# Altium schematic symbol library SCH Library.SchLib: 39 symbols
Pins are listed as number, name and electrical type; pins without a type are passive.

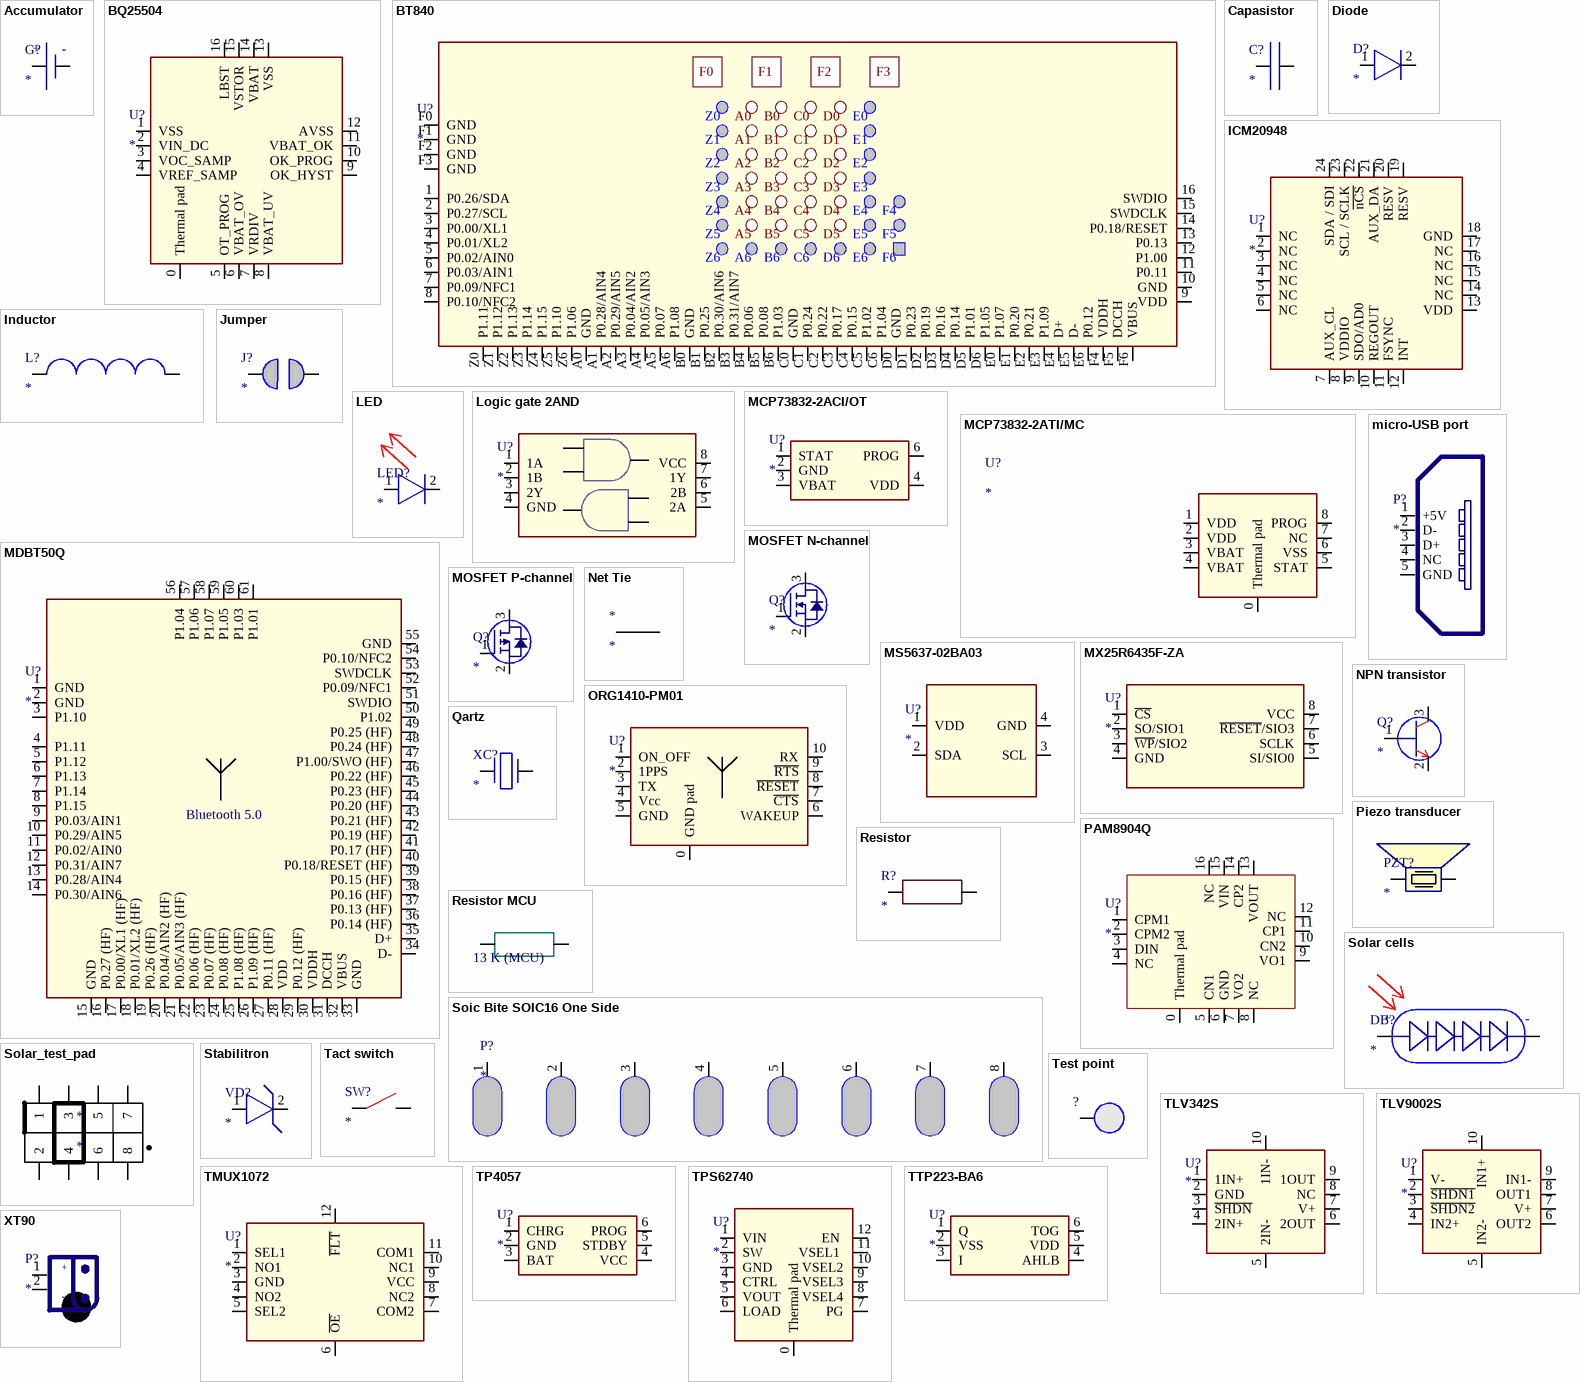
[diagram p0: symbols Accumulator to XT90]

## Accumulator
designator G?
footprint LPV551230 (LiPo accumulator)
pins: 1, 2
text: +; -

## BQ25504
designator U?
footprint BQ25504 (Solar harvester)
pins: 0 Thermal pad, 1 VSS, 2 VIN_DC, 3 VOC_SAMP, 4 VREF_SAMP, 5 OT_PROG, 6 VBAT_OV, 7 VRDIV, 8 VBAT_UV, 9 OK_HYST, 10 OK_PROG, 11 VBAT_OK, 12 AVSS, 13 VSS, 14 VBAT, 15 VSTOR, 16 LBST

## BT840
designator U?
footprint BT840 (Bluetooth 5.0 module)
pins: 1 P0.26/SDA, 2 P0.27/SCL, 3 P0.00/XL1, 4 P0.01/XL2, 5 P0.02/AIN0, 6 P0.03/AIN1, 7 P0.09/NFC1, 8 P0.10/NFC2, 9 VDD, 10 GND, 11 P0.11, 12 P1.00, 13 P0.13, 14 P0.18/RESET, 15 SWDCLK, 16 SWDIO, A0 GND, A1 P0.28/AIN4, A2 P0.29/AIN5, A3 P0.04/AIN2, A4 P0.05/AIN3, A5 P0.07, A6 P1.08, B0 GND, B1 P0.25, B2 P0.30/AIN6, B3 P0.31/AIN7, B4 P0.06, B5 P0.08, B6 P1.03, C0 GND, C1 P0.24, C2 P0.22, C3 P0.17, C4 P0.15, C5 P1.02, C6 P1.04, D0 GND, D1 P0.23, D2 P0.19, D3 P0.16, D4 P0.14, D5 P1.01, D6 P1.05, E0 P1.07, E1 P0.20, E2 P0.21, E3 P1.09, E4 D+, E5 D-, E6 P0.12, F0 GND (hiz), F1 GND, F2 GND, F3 GND, F4 VDDH, F5 DCCH, F6 VBUS, Z0 P1.11, Z1 P1.12, Z2 P1.13, Z3 P1.14, Z4 P1.15, Z5 P1.10, Z6 P1.06

## Capasistor
designator C?
footprint 0201 (Standard SMD component)
footprint 0402 (Standard SMD component)
footprint 0603 (Standard SMD component)
footprint 0805 (Standard SMD component)
pins: 1, 2

## Diode
designator D?
footprint SOD-523 (Standard SMD component)
footprint SOD-323 (Standard SMD component)
footprint SOD-123 (Standard SMD component)
pins: 1, 2

## ICM20948
designator U?
footprint ICM20948 (9-DOF IMU)
pins: 1 NC, 2 NC, 3 NC, 4 NC, 5 NC, 6 NC, 7 AUX_CL, 8 VDDIO, 9 SDO/AD0, 10 REGOUT, 11 FSYNC, 12 INT, 13 VDD, 14 NC, 15 NC, 16 NC, 17 NC, 18 GND, 19 RESV, 20 RESV, 21 AUX_DA, 22 ~{nCS}, 23 SCL / SCLK, 24 SDA / SDI

## Inductor
designator L?
footprint IFSC1515-AH-01 (Inductor)
pins: 1, 2

## Jumper
designator J?
footprint 0603 - Jumper (Standard SMD component)
footprint 0402 - JUMPER (Standard SMD component)
pins: 1, 2

## LED
designator LED?
footprint 0402 (Standard SMD component)
footprint 0603 (Standard SMD component)
footprint 0805 (Standard SMD component)
footprint 0603 - LED1 (Standard SMD component)
pins: 1, 2

## Logic gate 2AND
designator U?
pins: 1 1A, 2 1B, 3 2Y, 4 GND, 5 2A, 6 2B, 7 1Y, 8 VCC

## MCP73832-2ACI/OT
designator U?
footprint SOT23-5 (Standard SMD component)
pins: 1 STAT, 2 GND, 3 VBAT, 4 VDD, 6 PROG

## MCP73832-2ATI/MC
designator U?
footprint MCP73832-2ATI/MC
pins: 0 Thermal pad, 1 VDD, 2 VDD, 3 VBAT, 4 VBAT, 5 STAT, 6 VSS, 7 NC, 8 PROG

## MDBT50Q
designator U?
footprint MDBT50Q-P1M (Bluetooth 5.0 module)
pins: 1 GND, 2 GND, 3 P1.10, 4 P1.11, 5 P1.12, 6 P1.13, 7 P1.14, 8 P1.15, 9 P0.03/AIN1, 10 P0.29/AIN5, 11 P0.02/AIN0, 12 P0.31/AIN7, 13 P0.28/AIN4, 14 P0.30/AIN6, 15 GND, 16 P0.27 (HF), 17 P0.00/XL1 (HF), 18 P0.01/XL2 (HF), 19 P0.26 (HF), 20 P0.04/AIN2 (HF), 21 P0.05/AIN3 (HF), 22 P0.06 (HF), 23 P0.07 (HF), 24 P0.08 (HF), 25 P1.08 (HF), 26 P1.09 (HF), 27 P0.11 (HF), 28 VDD, 29 P0.12 (HF), 30 VDDH, 31 DCCH, 32 VBUS, 33 GND, 34 D-, 35 D+, 36 P0.14 (HF), 37 P0.13 (HF), 38 P0.16 (HF), 39 P0.15 (HF), 40 P0.18/RESET (HF), 41 P0.17 (HF), 42 P0.19 (HF), 43 P0.21 (HF), 44 P0.20 (HF), 45 P0.23 (HF), 46 P0.22 (HF), 47 P1.00/SWO (HF), 48 P0.24 (HF), 49 P0.25 (HF), 50 P1.02, 51 SWDIO, 52 P0.09/NFC1, 53 SWDCLK, 54 P0.10/NFC2, 55 GND, 56 P1.04, 57 P1.06, 58 P1.07, 59 P1.05, 60 P1.03, 61 P1.01
text: Bluetooth 5.0

## micro-USB port
designator P?
footprint U-E-M5SS-W-0 (micro-USB port)
pins: 1 +5V, 2 D-, 3 D+, 4 NC, 5 GND

## MOSFET N-channel
designator Q?
footprint SOT23-3 (Standard SMD component)
pins: 1 GATE, 2 SOURCE, 3 DRAIN

## MOSFET P-channel
designator Q?
footprint SOT23-3 (Standard SMD component)
pins: 1 GATE, 2 SOURCE, 3 DRAIN

## MS5637-02BA03
designator U?
footprint MS5637-02BA03 (Barometer)
pins: 1 VDD, 2 SDA, 3 SCL, 4 GND

## MX25R6435F-ZA
designator U?
footprint MX25R6435F-ZA (64 MB Flash)
pins: 1 ~{CS}, 2 SO/SIO1, 3 ~{WP}/SIO2, 4 GND, 5 SI/SIO0, 6 SCLK, 7 ~{RESET}/SIO3, 8 VCC

## Net Tie
designator *  (net tie, no BOM)
footprint Net Tie (Nothing but a logical connection between two nets)
footprint Big_net_tie
pins: 1, 2

## NPN transistor
designator Q?
footprint SOT23-3 (Standard SMD component)
pins: 1, 2, 3

## ORG1410-PM01
designator U?
footprint ORG1410-PM01 (GPS module)
pins: 0 GND pad, 1 ON_OFF, 2 1PPS, 3 TX, 4 Vcc, 5 GND, 6 WAKEUP, 7 ~{CTS}, 8 ~{RESET}, 9 ~{RTS}, 10 RX

## PAM8904Q
designator U?
pins: 0 Thermal pad, 1 CPM1, 2 CPM2, 3 DIN, 4 NC, 5 CN1, 6 GND, 7 VO2, 8 NC, 9 VO1, 10 CN2, 11 CP1, 12 NC, 13 VOUT, 14 CP2, 15 VIN, 16 NC

## Piezo transducer
designator PZT?
footprint PKMCS0909E4000-R1 (Piezo transducer)
footprint SMAT-13S (Piezo transducer)
footprint SMAT-13-mount by wire (Piezo transducer)
pins: 1, 2

## Qartz
designator XC?
footprint 9HT12 (Qartz crystal)
footprint CM7V-T1A (Qartz crystal)
footprint 9HT11 (Qartz crystal 9HT11-32.768KDZY-T)
pins: 1, 2

## Resistor
designator R?
footprint 0201 (Standard SMD component)
footprint 0402 (Standard SMD component)
footprint 0603 (Standard SMD component)
footprint 0805 (Standard SMD component)
pins: 1, 2

## Resistor MCU
designator MCU pull-up/down ?, comment 13 K (MCU)

## Soic Bite SOIC16 One Side
designator P?
footprint SOIC BITE SOIC16 ONE SIDE
pins: 1, 2, 3, 4, 5, 6, 7, 8

## Solar cells
designator DB?  (no BOM)
footprint Solar cells
text: +; -

## Solar_test_pad
designator *
footprint Test_pad
pins: 1 "VCC_main", 2 "VCC_charge", 3 "SWD_DIO", 4 "SWD_CLK", 5 "V_SOL_+", 6 "V_SOL_-", 7 "VSS_USB", 8 "Gnd"
text: .

## Stabilitron
designator VD?
footprint SOD-523 (Standard SMD component)
footprint SOD-323 (Standard SMD component)
footprint SOD-123 (Standard SMD component)
pins: 1, 2

## Tact switch
designator SW?
footprint IT1184-160G (Tact switch)
footprint B3U-1000P (Tact switch)
pins: 1, 2

## Test point
designator ?  (value not drawn)
footprint Test point (Describes itself)
pins: 1

## TLV342S
designator U?
footprint X2QFN (Standard package)
pins: 1 1IN+, 2 GND (hiz), 3 ~{SHDN}, 4 2IN+ (hiz), 5 2IN-, 6 2OUT (hiz), 7 V+ (hiz), 8 NC (hiz), 9 1OUT (hiz), 10 1IN- (hiz)

## TLV9002S
designator U?
footprint X2QFN (Standard package)
pins: 1 V-, 2 ~{SHDN1}, 3 ~{SHDN2}, 4 IN2+, 5 IN2-, 6 OUT2, 7 V+, 8 OUT1, 9 IN1-, 10 IN1+

## TMUX1072
designator U?
footprint TMUX1072RUTR (PQFN 12-Leads)
pins: 1 SEL1 (hiz), 2 NO1 (hiz), 3 GND (hiz), 4 NO2 (hiz), 5 SEL2 (hiz), 6 ~{OE} (hiz), 7 COM2 (hiz), 8 NC2 (hiz), 9 VCC (hiz), 10 NC1 (hiz), 11 COM1 (hiz), 12 ~{FLT} (hiz)

## TP4057
designator U?
footprint SOT23-6 (Standard SMD component)
pins: 1 CHRG, 2 GND, 3 BAT, 4 VCC, 5 STDBY, 6 PROG

## TPS62740
designator U?
footprint TPS62740 (DC/DC voltage regulator)
pins: 0 Thermal pad, 1 VIN , 2 SW, 3 GND , 4 CTRL, 5 VOUT , 6 LOAD , 7 PG, 8 VSEL4, 9 VSEL3, 10 VSEL2, 11 VSEL1 , 12 EN 

## TTP223-BA6
designator U?
footprint SOT23-6 (Standard SMD component)
pins: 1 Q, 2 VSS, 3 I, 4 AHLB, 5 VDD, 6 TOG

## XT90
designator P?
footprint XT90PW-M (Power port)
pins: 1, 2
text: +; -